# Altium footprint library APSS Flight Parts.PcbLib: 19 footprints (part 2 of 2)
Each footprint in its own frame and in the unit in brackets; x right, y up, seen from the top. Pads: shape width x height; smd on the part's side, far side on the other; paste and mask are expansions set on the pad; w line width, h text height; cw(c..) or ccw(c..) is an arc to the next point about the centre after c.
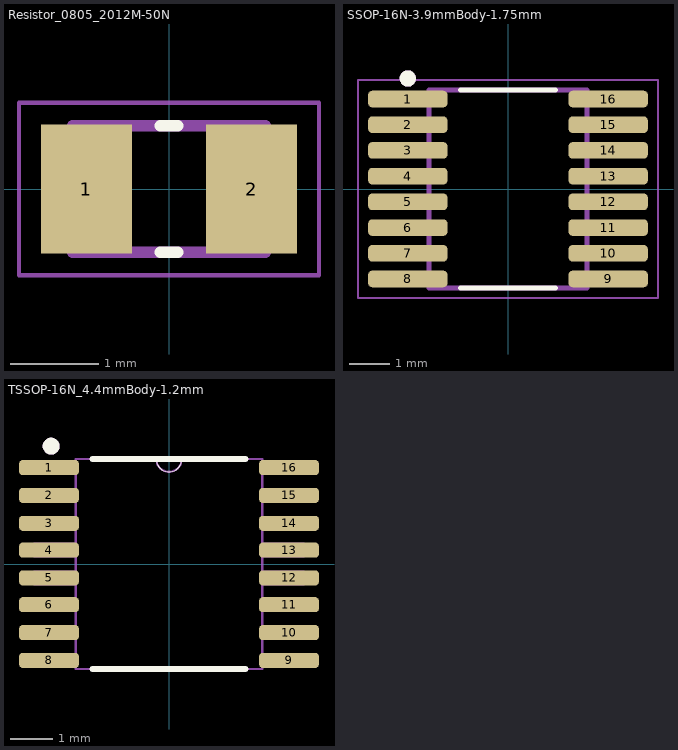
[diagram p1: the footprints below, top view; thin cyan lines are the x and y axes]

## Resistor_0805_2012M-50N [mm] "Resistor, 0805 (2012 metric), nominal pads"
height 0.5
pads (2):
  rect 1.04x1.47 smd mask+0.051: 1(-0.94,0) 2(0.94,0)
Top Overlay:
  lines w0.127: -0.1,-0.72 0.1,-0.72 ; -0.1,0.72 0.1,0.72
Mechanical 13:
  lines w0.127: -1.1,-0.72 1.1,-0.72 1.1,0.72 -1.1,0.72 -1.1,-0.72
Mechanical 15:
  lines w0.05: -1.708,-0.983 1.708,-0.983 1.708,0.983 -1.708,0.983 -1.708,-0.983
3D body "RG2012P-103-D-T5.step": height 0.5, standoff 0, extent -1,-0.625 1,0.625

## SSOP-16N-3.9mmBody-1.75mm [mm] "SSOP, 16 pins, 3.9mm wide body, 1.75mm high"
height 1.75
pads (16):
  rrect50% 1.96x0.41 smd mask+0.051: 1(-2.475,2.222) 2(-2.475,1.587) 3(-2.475,0.953) 4(-2.475,0.318) 5(-2.475,-0.318) 6(-2.475,-0.953) 7(-2.475,-1.587) 8(-2.475,-2.222) 9(2.475,-2.222) 10(2.475,-1.587) 11(2.475,-0.953) 12(2.475,-0.318) 13(2.475,0.318) 14(2.475,0.953) 15(2.475,1.587) 16(2.475,2.222)
Top Overlay:
  circle w0.2: c-2.475,2.73 r0.1
  lines w0.127: -1.175,-2.445 1.175,-2.445 ; -1.175,2.445 1.175,2.445
Mechanical 13:
  circle w0.2: c-2.475,2.73 r0.1
  lines w0.127: -1.95,-2.445 1.95,-2.445 1.95,2.445 -1.95,2.445 -1.95,-2.445
Mechanical 15:
  lines w0.05: -3.705,-2.695 3.705,-2.695 3.705,2.695 -3.705,2.695 -3.705,-2.695
3D body "step_temp.STEP": height 1.75, standoff 0, extent -3.004,-2.445 3.004,2.445

## TSSOP-16N_4.4mmBody-1.2mm [mil] "TSSOP, 4.4mm body, 1.2mm high, nominal pads"
height 47.24
pads (16):
  rrect50% 56x14 smd mask+2: 1(-112,90) 2(-112,64) 3(-112,38) 4(-112,13) 5(-112,-13) 6(-112,-38) 7(-112,-64) 8(-112,-90) 9(112,-90) 10(112,-64) 11(112,-38) 12(112,-13) 13(112,13) 14(112,38) 15(112,64) 16(112,90)
Top Overlay:
  circle w7.87: c-110,110 r3.94
  lines w0: -12,98 ccw(c0,98) 12,98 cw(c0,98) -12,98
  lines w6: -71,-98 71,-98 ; -71,98 -12,98 12,98 71,98
Mechanical 13:
  circle w7.87: c-110,110 r3.94
  lines w2: -126,-95 -87,-95 ; -126,-95 -126,-84 ; -126,-95 -87,-95 ; -126,-95 -126,-84 ; -126,-84 -87,-84 ; -126,-84 -87,-84 ; -126,-70 -87,-70 ; -126,-70 -126,-58 ; -126,-70 -87,-70 ; -126,-70 -126,-58 ; -126,-58 -87,-58 ; -126,-58 -87,-58 ; -126,-44 -87,-44 ; -126,-44 -126,-32 ; -126,-44 -87,-44 ; -126,-44 -126,-32 ; -126,-32 -87,-32 ; -126,-32 -87,-32 ; -126,-19 -87,-19 ; -126,-19 -126,-7 ; -126,-19 -87,-19 ; -126,-19 -126,-7 ; -126,-7 -87,-7 ; -126,-7 -87,-7 ; -126,7 -87,7 ; -126,7 -126,19 ; -126,7 -87,7 ; -126,7 -126,19 ; -126,19 -87,19 ; -126,19 -87,19 ; -126,32 -87,32 ; -126,32 -126,44 ; -126,32 -87,32 ; -126,32 -126,44 ; -126,44 -87,44 ; -126,44 -87,44 ; -126,58 -87,58 ; -126,58 -126,70 ; -126,58 -87,58 ; -126,58 -126,70 ; -126,70 -87,70 ; -126,70 -87,70 ; -126,84 -87,84 ; -126,84 -126,95 ; -126,84 -87,84 ; -126,84 -126,95 ; -126,95 -87,95 ; -126,95 -87,95 ; -87,-98 -87,98 ; -87,-98 87,-98 ; -87,-98 -87,98 ; -87,-98 87,-98 ; -87,-95 -87,-84 ; -87,-95 -87,-84 ; -87,-70 -87,-58 ; -87,-70 -87,-58 ; -87,-44 -87,-32 ; -87,-44 -87,-32 ; -87,-19 -87,-7 ; -87,-19 -87,-7 ; -87,7 -87,19 ; -87,7 -87,19 ; -87,32 -87,44 ; -87,32 -87,44 ; -87,58 -87,70 ; -87,58 -87,70 ; -87,84 -87,95 ; -87,84 -87,95 ; -87,98 -12,98 ; -87,98 -12,98 ; -12,98 ccw(c0,98) 12,98 ; -12,98 ccw(c0,98) 12,98 ; -12,98 ccw(c0,98) 12,98 ; -12,98 ccw(c0,98) 12,98 ; -12,98 12,98 ; -12,98 12,98 ; 12,98 87,98 ; 12,98 87,98 ; 87,-98 87,98 ; 87,-98 87,98 ; 87,-95 126,-95 ; 87,-95 87,-84 ; 87,-95 126,-95 ; 87,-95 87,-84 ; 87,-84 126,-84 ; 87,-84 126,-84 ; 87,-70 126,-70 ; 87,-70 87,-58 ; 87,-70 126,-70 ; 87,-70 87,-58 ; 87,-58 126,-58 ; 87,-58 126,-58 ; 87,-44 126,-44 ; 87,-44 87,-32 ; 87,-44 126,-44 ; 87,-44 87,-32 ; 87,-32 126,-32 ; 87,-32 126,-32 ; 87,-19 126,-19 ; 87,-19 87,-7 ; 87,-19 126,-19 ; 87,-19 87,-7 ; 87,-7 126,-7 ; 87,-7 126,-7 ; 87,7 126,7 ; 87,7 87,19 ; 87,7 126,7 ; 87,7 87,19 ; 87,19 126,19 ; 87,19 126,19 ; 87,32 126,32 ; 87,32 87,44 ; 87,32 126,32 ; 87,32 87,44 ; 87,44 126,44 ; 87,44 126,44 ; 87,58 126,58 ; 87,58 87,70 ; 87,58 126,58 ; 87,58 87,70 ; 87,70 126,70 ; 87,70 126,70 ; 87,84 126,84 ; 87,84 87,95 ; 87,84 126,84 ; 87,84 87,95 ; 87,95 126,95 ; 87,95 126,95 ; 126,-95 126,-84 ; 126,-95 126,-84 ; 126,-70 126,-58 ; 126,-70 126,-58 ; 126,-44 126,-32 ; 126,-44 126,-32 ; 126,-19 126,-7 ; 126,-19 126,-7 ; 126,7 126,19 ; 126,7 126,19 ; 126,32 126,44 ; 126,32 126,44 ; 126,58 126,70 ; 126,58 126,70 ; 126,84 126,95 ; 126,84 126,95
3D body "ADC128S052CIMT.STEP": height 46.26, standoff -0.98, extent -125.98,-98.43 125.99,98.43